# EAGLE library part SST39SF010A (library FLASHMemory)
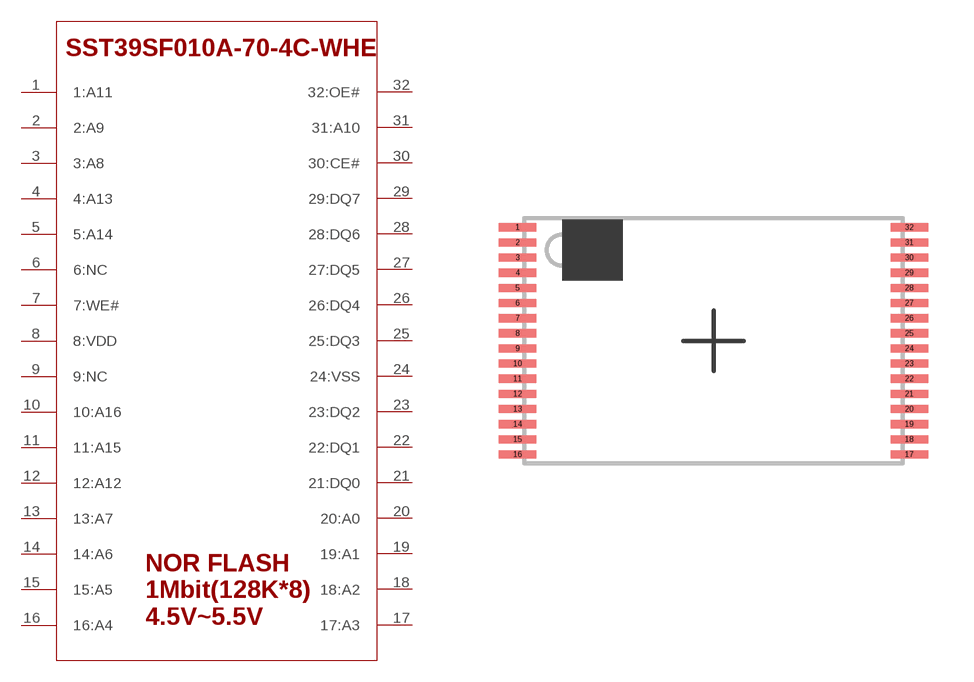
[diagram p0: symbol with the pads of SST39SF010A-70-4C-WHE; footprint SST39SF010A-70-4C-WHE]

Designator prefix -

## SST39SF010A  [SST39SF010A-70-4C-WHE]
1  1:A11
2  2:A9
3  3:A8
4  4:A13
5  5:A14
6  6:NC
7  7:WE#
8  8:VDD
9  9:NC
10  10:A16
11  11:A15
12  12:A12
13  13:A7
14  14:A6
15  15:A5
16  16:A4
17  17:A3
18  18:A2
19  19:A1
20  20:A0
21  21:DQ0
22  22:DQ1
23  23:DQ2
24  24:VSS
25  25:DQ3
26  26:DQ4
27  27:DQ5
28  28:DQ6
29  29:DQ7
30  30:CE#
31  31:A10
32  32:OE#

## Footprint SST39SF010A-70-4C-WHE (pad centres in mm)
smd 1.27 x 0.27: 1 -6.463,3.75; 2 -6.463,3.25; 3 -6.463,2.75; 4 -6.463,2.25; 5 -6.463,1.75; 6 -6.463,1.25; 7 -6.463,0.75; 8 -6.463,0.25; 9 -6.463,-0.25; 10 -6.463,-0.75; 11 -6.463,-1.25; 12 -6.463,-1.75; 13 -6.463,-2.25; 14 -6.463,-2.75; 15 -6.463,-3.25; 16 -6.463,-3.75; 17 6.463,-3.75; 18 6.463,-3.25; 19 6.463,-2.75; 20 6.463,-2.25; 21 6.463,-1.75; 22 6.463,-1.25; 23 6.463,-0.75; 24 6.463,-0.25; 25 6.463,0.25; 26 6.463,0.75; 27 6.463,1.25; 28 6.463,1.75; 29 6.463,2.25; 30 6.463,2.75; 31 6.463,3.25; 32 6.463,3.75